# Altium schematic symbol library BD125-10-A-0305-0580-L-B.SchLib: 1 symbol
Pins are listed as number, name and electrical type; pins without a type are passive.

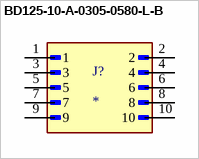
[diagram p0: symbol BD125-10-A-0305-0580-L-B]

## BD125-10-A-0305-0580-L-B
designator J?
Connector Header Surface Mount 10 position 0.050 (1.27mm); MF: GCT; MP: BD125-10-A-0305-0580-L-B; SnapEDA_Link: https://www.snapeda.com/parts/BD125-10-A-0305-0580-L-B/Global+Connector+Technology/view-part/?ref=snap; Package: None; Value: *; Check_prices: https://www.snapeda.com/parts/BD125-10-A-0305-0580-L-B/Global+Connector+Technology/view-part/?ref=eda
footprint GCT_BD125-10-A-0305-0580-L-B
pins: 1, 2, 3, 4, 5, 6, 7, 8, 9, 10